# Altium footprint library LDO_Micrel_MIC94325YMTTR_TDFN-6.PcbLib: 1 footprints
Each footprint in its own frame and in the unit in brackets; x right, y up, seen from the top. Pads: shape width x height; smd on the part's side, far side on the other; paste and mask are expansions set on the pad; w line width, h text height; cw(c..) or ccw(c..) is an arc to the next point about the centre after c.
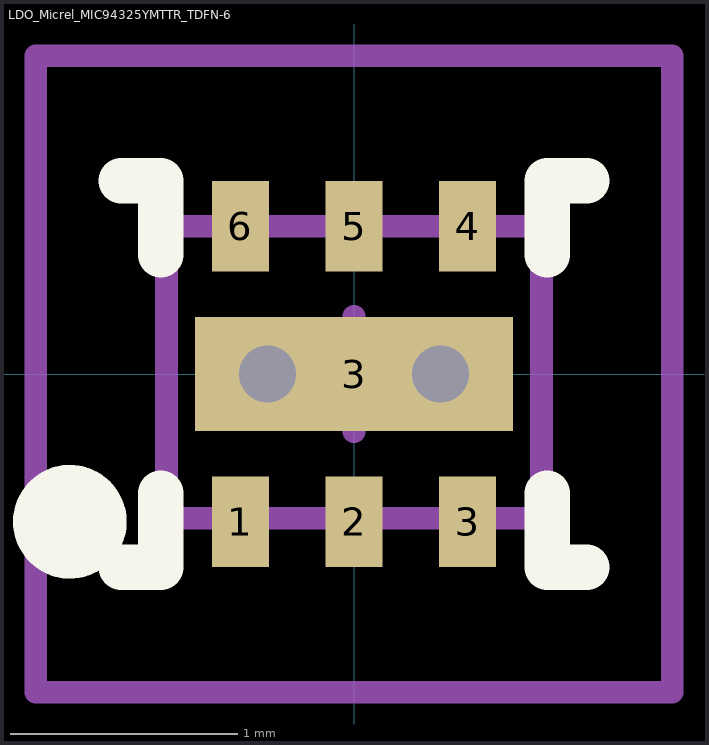
[diagram p0: the footprint, top view; thin cyan lines are the x and y axes]

## LDO_Micrel_MIC94325YMTTR_TDFN-6 [mm] "IC REG LDO ADJ .5A 6TDFN"
height 0.6
pads (7):
  rect 0.25x0.4 smd: 1(-0.5,-0.65) 2(0,-0.65) 3(0.5,-0.65) 4(0.5,0.65) 5(0,0.65) 6(-0.5,0.65)
  rect 1.4x0.5 smd: 3(0,0)
via -0.381,0 diameter 0.4 hole 0.25
via 0.381,0 diameter 0.4 hole 0.25
Top Overlay:
  circle w0.25: c-1.25,-0.65 r0.125
  lines w0.2: -1.025,-0.85 -0.85,-0.85 -0.85,-0.525 ; -1.025,0.85 -0.85,0.85 -0.85,0.525 ; 0.85,-0.525 0.85,-0.85 1.025,-0.85 ; 0.85,0.525 0.85,0.85 1.025,0.85
Mechanical 13:
  lines w0.1: -0.825,-0.635 -0.825,0.65 0.825,0.65 0.825,-0.635 -0.825,-0.635
Mechanical 15:
  lines w0.1: -0.254,0 0.254,0 ; 0,-0.254 0,0.254 ; -1.4,-1.4 -1.4,1.4 1.4,1.4 1.4,-1.4 -1.4,-1.4
3D body: height 0.6, standoff 0, extent -0.825,-0.65 0.825,0.65